# Altium footprint library diode.PcbLib: 33 footprints (part 3 of 3)
Each footprint in its own frame and in the unit in brackets; x right, y up, seen from the top. Pads: shape width x height; smd on the part's side, far side on the other; paste and mask are expansions set on the pad; w line width, h text height; cw(c..) or ccw(c..) is an arc to the next point about the centre after c.
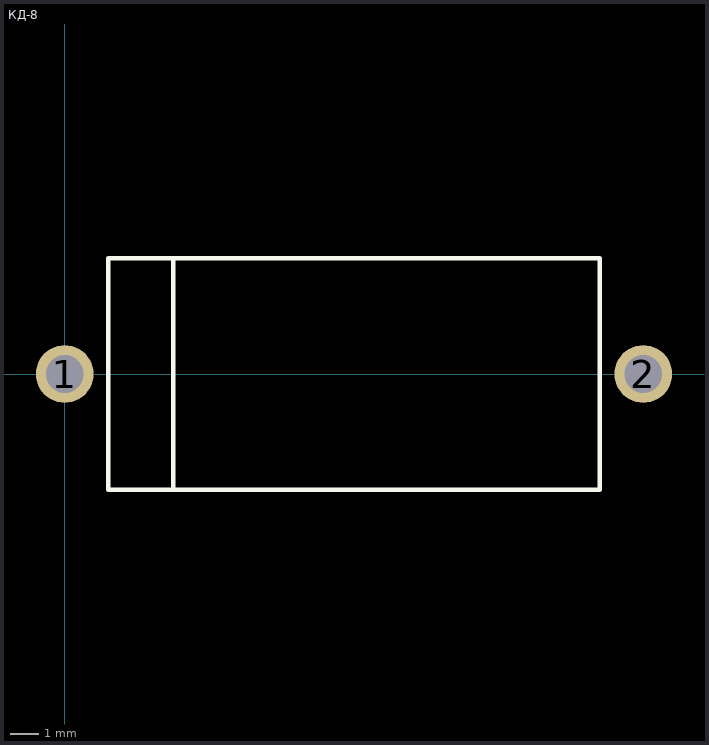
[diagram p2: the footprint, top view; thin cyan lines are the x and y axes]

## КД-8 [mm]
pads (2):
  round 2 hole 1.3: 1(0,0) 2(20,0)
Top Overlay:
  lines w0.15: 3.75,-4 3.75,4 ; 1.5,-4 18.5,-4 18.5,4 1.5,4 1.5,-4
3D body: height 7, standoff 0, extent 2.5,-3.5 17.5,3.5